# Altium footprint library AluminumElectrolyticCapacitors.PcbLib: 10 footprints
Each footprint in its own frame and in the unit in brackets; x right, y up, seen from the top. Pads: shape width x height; smd on the part's side, far side on the other; paste and mask are expansions set on the pad; w line width, h text height; cw(c..) or ccw(c..) is an arc to the next point about the centre after c.
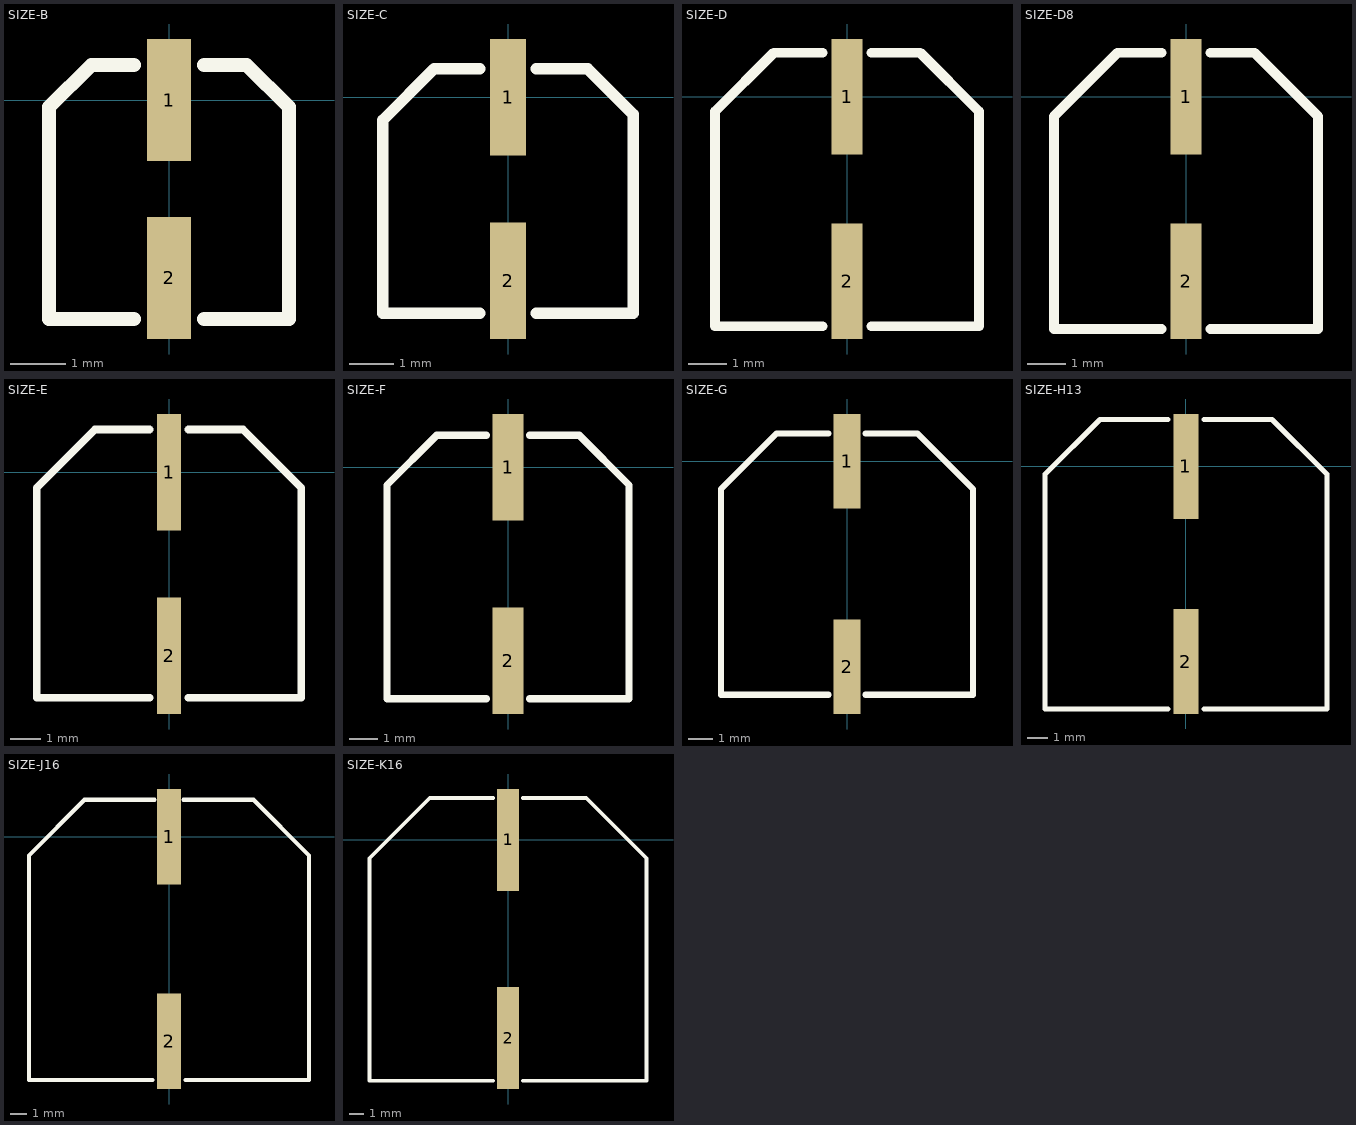
[diagram p0: the footprints below, top view; thin cyan lines are the x and y axes]

## SIZE-B [mm]
pads (2):
  rect 0.8x2.2 smd: 1(0,0) 2(0,-3.2)
Top Overlay:
  lines w0.254: -0.635,-3.937 -2.159,-3.937 -2.159,-0.127 -1.397,0.635 -0.635,0.635 ; 0.635,-3.937 2.159,-3.937 2.159,-0.127 1.397,0.635 1.333,0.635 0.635,0.635
3D body: height 5.41, standoff -0.01, extent -2.15,-3.897 2.15,0.703

## SIZE-C [mm]
pads (2):
  rect 0.8x2.6 smd: 1(0,0) 2(0,-4.1)
Top Overlay:
  lines w0.254: -0.635,-4.826 -2.794,-4.826 -2.794,-0.508 -1.651,0.635 -0.635,0.635 ; 0.635,-4.826 2.794,-4.826 2.794,-0.381 1.778,0.635 0.635,0.635
3D body: height 5.41, standoff -0.01, extent -2.65,-5.055 2.65,0.845

## SIZE-D [mm]
pads (2):
  rect 0.8x3 smd: 1(0,0) 2(0,-4.8)
Top Overlay:
  lines w0.254: -0.635,-5.969 -3.429,-5.969 -3.429,-0.381 -1.905,1.143 -0.635,1.143 ; 0.635,-5.969 3.429,-5.969 3.429,-0.381 1.905,1.143 0.635,1.143
3D body: height 5.41, standoff -0.01, extent -3.3,-5.859 3.3,1.141

## SIZE-D8 [mm]
pads (2):
  rect 0.8x3 smd: 1(0,0) 2(0,-4.8)
Top Overlay:
  lines w0.254: -0.635,-6.042 -3.429,-6.042 -3.429,-0.508 -1.778,1.143 -0.635,1.143 ; 0.635,-6.042 3.429,-6.042 3.429,-0.508 1.778,1.143 0.635,1.143
3D body: height 7.71, standoff -0.01, extent -3.3,-5.913 3.3,1.087

## SIZE-E [mm]
pads (2):
  rect 0.8x3.8 smd: 1(0,0) 2(0,-6)
Top Overlay:
  lines w0.254: -0.635,-7.366 -4.318,-7.366 -4.318,-0.508 -2.413,1.397 -0.635,1.397 ; 0.635,-7.366 4.318,-7.366 4.318,-0.508 2.413,1.397 0.635,1.397
3D body: height 6.2, standoff -0.01, extent -4.15,-7.494 4.15,1.506

## SIZE-F [mm]
pads (2):
  rect 1.1x3.8 smd: 1(0,0) 2(0,-6.9)
Top Overlay:
  lines w0.254: -0.762,-8.255 -4.318,-8.255 -4.318,-0.635 -2.54,1.143 -0.762,1.143 ; 0.762,-8.255 4.318,-8.255 4.318,-0.635 2.54,1.143 0.762,1.143
3D body: height 10.21, standoff -0.01, extent -4.15,-8.379 4.15,1.521

## SIZE-G [mm]
pads (2):
  rect 1.1x3.9 smd: 1(0,0) 2(0,-8.5)
Top Overlay:
  lines w0.254: -0.762,-9.652 -5.207,-9.652 -5.207,-1.143 -2.921,1.143 -0.762,1.143 ; 0.762,-9.652 5.207,-9.652 5.207,-1.143 2.921,1.143 0.762,1.143
3D body: height 10.21, standoff -0.01, extent -5.15,-10.064 5.15,1.536

## SIZE-H13 [mm]
pads (2):
  rect 1.2x5.1 smd: 1(0,0) 2(0,-9.5)
Top Overlay:
  lines w0.254: -0.889,-11.811 -6.858,-11.811 -6.858,-0.381 -4.191,2.286 -0.889,2.286 ; 0.889,-11.811 6.858,-11.811 6.858,-0.381 4.191,2.286 0.889,2.286
3D body: height 13.5, standoff -0.01, extent -6.75,-11.672 6.75,2.128

## SIZE-J16 [mm]
pads (2):
  rect 1.5x5.9 smd: 1(0,0) 2(0,-12.6)
Top Overlay:
  lines w0.254: -1.016,-14.986 -8.636,-14.986 -8.636,-1.143 -5.207,2.286 -0.889,2.286 ; 0.889,2.286 5.207,2.286 8.636,-1.143 8.636,-14.986 1.016,-14.986
3D body: height 16.5, standoff -0.01, extent -8.5,-15.146 8.5,2.554

## SIZE-K16 [mm]
pads (2):
  rect 1.5x7.1 smd: 1(0,0) 2(0,-13.8)
Top Overlay:
  lines w0.254: -1.016,-16.764 -9.652,-16.764 -9.652,-1.27 -5.461,2.921 -1.016,2.921 ; 1.016,-16.764 9.652,-16.764 9.652,-1.27 5.461,2.921 1.016,2.921
3D body: height 16.5, standoff -0.01, extent -9.5,-16.981 9.5,3.119